# Altium schematic symbol library EletroSketch.SchLib: 6 symbols
Pins are listed as number, name and electrical type; pins without a type are passive.

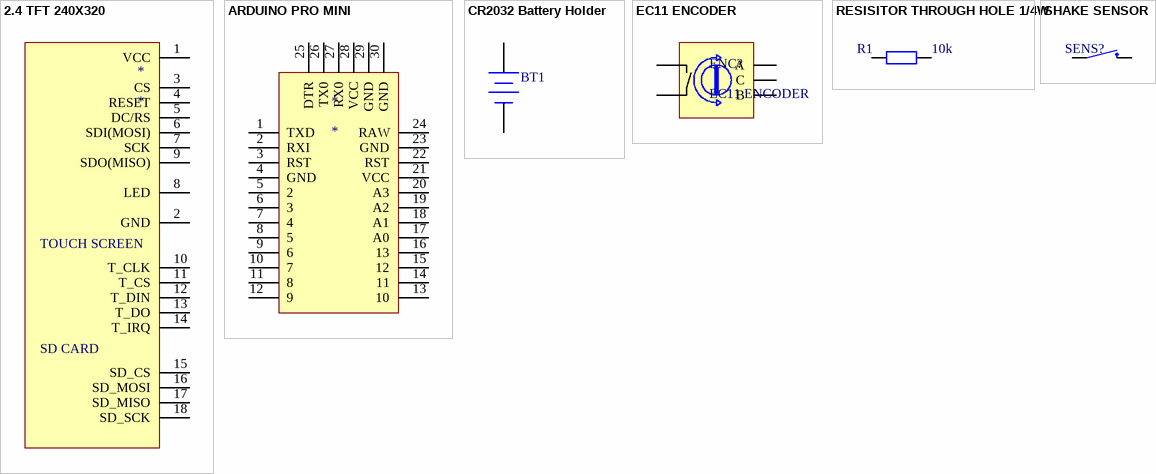
[diagram p0: symbols 2.4 TFT 240X320 to SHAKE SENSOR]

## 2.4 TFT 240X320
designator *
footprint 2.4 TFT LCD (2.4" TFT LCD (AND TOUCH SCREEN))
pins: 1 VCC, 2 GND, 3 CS, 4 RESET, 5 DC/RS, 6 SDI(MOSI), 7 SCK, 8 LED, 9 SDO(MISO), 10 T_CLK, 11 T_CS, 12 T_DIN, 13 T_DO, 14 T_IRQ, 15 SD_CS, 16 SD_MOSI, 17 SD_MISO, 18 SD_SCK
text: TOUCH SCREEN; SD CARD

## ARDUINO PRO MINI
designator *
footprint ARDUINO PRO MINI
pins: 1 TXD, 2 RXI, 3 RST, 4 GND, 5 2, 6 3, 7 4, 8 5, 9 6, 10 7, 11 8, 12 9, 13 10, 14 11, 15 12, 16 13, 17 A0, 18 A1, 19 A2, 20 A3, 21 VCC, 22 RST, 23 GND, 24 RAW, 25 DTR, 26 TX0, 27 RX0, 28 VCC, 29 GND, 30 GND

## CR2032 Battery Holder
designator BT1  (value not drawn)
CR2032 Battery Holder, Through Hole, Horizontal Mount; CustomComponentID: dvcba8mzfnv4aqscf1uc
footprint CR2032 HOLDER
footprint CR2032 HOLDER
pins: 1 +, 2 -

## EC11 ENCODER
designator ENC?
EC11 ROTARY ENCODER WITH PUSH BUTTON
footprint EC11 ENCODER (EC11 ROTARY ENCODER)
pins: 1 A, 2 C, 3 B, 4 SW_0, 5 SW_1

## RESISITOR THROUGH HOLE 1/4W
designator R1, comment 10k
RESISITOR THROUGH HOLE 1/4W; CustomComponentID: iaxfckaaxq3jb0c9euu5
footprint RESISTOR 0.400"
pins: 1, 2

## SHAKE SENSOR
designator SENS?  (value not drawn)
Published: 8-Jun-2000; LatestRevisionDate: 17-Jul-2002; LatestRevisionNote: Re-released for DXP Platform.; PackageReference: AXIAL-0.4; Publisher: Altium Limited; PackageDescription: Axial Device, Thru-Hole; 2 Leads; 0.4 in Pin Spacing
footprint SHAKE SENSOR
pins: 1, 2